# Altium schematic symbol library AM2S-05xx.Schlib: 1 symbol
Pins are listed as number, name and electrical type; pins without a type are passive.

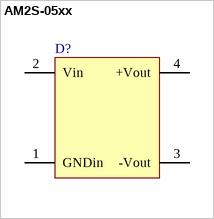
[diagram p0: symbol AM2S-05xx]

## AM2S-05xx
designator D?
DC-DC converter; Package Information: Latest Revision: ver11.0, Feb-2003; Configures: APEX II, APEX 20K, Mercury, ACEX 1K & FLEX Devices; Code - JEDEC: MS-026-ABA; Published: 17-Sep-2003; Datasheet: Latest Revision: ver1.1, Oct-2003; Package Reference: TQFP32; Publisher: Altium Limited
footprint SIP-4
pins: 1 GNDin (power), 2 Vin (power), 3 -Vout (power), 4 +Vout (power)